# EAGLE library part MAX6921AWI+ (library taki-library)
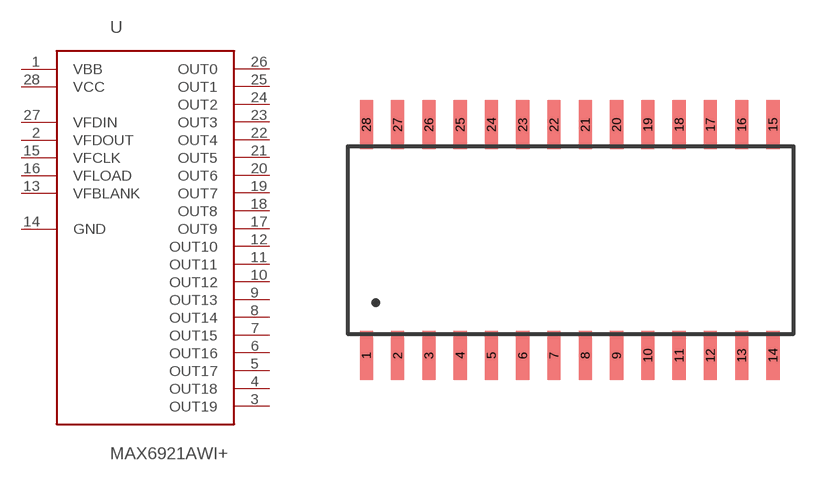
[diagram p32: symbol with the pads of SOIC-28-MI; footprint SOIC-28-MI]

Designator prefix U

## MAX6921AWI+  [SOIC-28-MI]
1  VBB
2  VFDOUT
3  OUT19
4  OUT18
5  OUT17
6  OUT16
7  OUT15
8  OUT14
9  OUT13
10  OUT12
11  OUT11
12  OUT10
13  VFBLANK
14  GND
15  VFCLK
16  VFLOAD
17  OUT9
18  OUT8
19  OUT7
20  OUT6
21  OUT5
22  OUT4
23  OUT3
24  OUT2
25  OUT1
26  OUT0
27  VFDIN
28  VCC

## Footprint SOIC-28-MI (pad centres in mm)
smd 0.533 x 1.981: 1 0,-4.686; 2 1.27,-4.686; 3 2.54,-4.686; 4 3.81,-4.686; 5 5.08,-4.686; 6 6.35,-4.686; 7 7.62,-4.686; 8 8.89,-4.686; 9 10.16,-4.686; 10 11.43,-4.686; 11 12.7,-4.686; 12 13.97,-4.686; 13 15.24,-4.686; 14 16.51,-4.686; 15 16.51,4.686; 16 15.24,4.686; 17 13.97,4.686; 18 12.7,4.686; 19 11.43,4.686; 20 10.16,4.686; 21 8.89,4.686; 22 7.62,4.686; 23 6.35,4.686; 24 5.08,4.686; 25 3.81,4.686; 26 2.54,4.686; 27 1.27,4.686; 28 0,4.686